# Altium schematic symbol library SCH - POWER - SWITCHMODE - TI TPS63021_DSJ_14.SchLib: 1 symbol
Pins are listed as number, name and electrical type; pins without a type are passive.

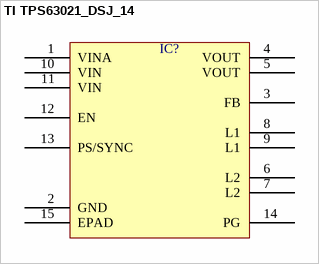
[diagram p0: symbol TI TPS63021_DSJ_14]

## TI TPS63021_DSJ_14
designator IC?  (value not drawn)
pins: 1 VINA, 2 GND, 3 FB, 4 VOUT, 5 VOUT, 6 L2, 7 L2, 8 L1, 9 L1, 10 VIN, 11 VIN, 12 EN, 13 PS/SYNC, 14 PG, 15 EPAD